# Altium footprint library ANT11SF1CQE.PcbLib: 1 footprints
Each footprint in its own frame and in the unit in brackets; x right, y up, seen from the top. Pads: shape width x height; smd on the part's side, far side on the other; paste and mask are expansions set on the pad; w line width, h text height; cw(c..) or ccw(c..) is an arc to the next point about the centre after c.
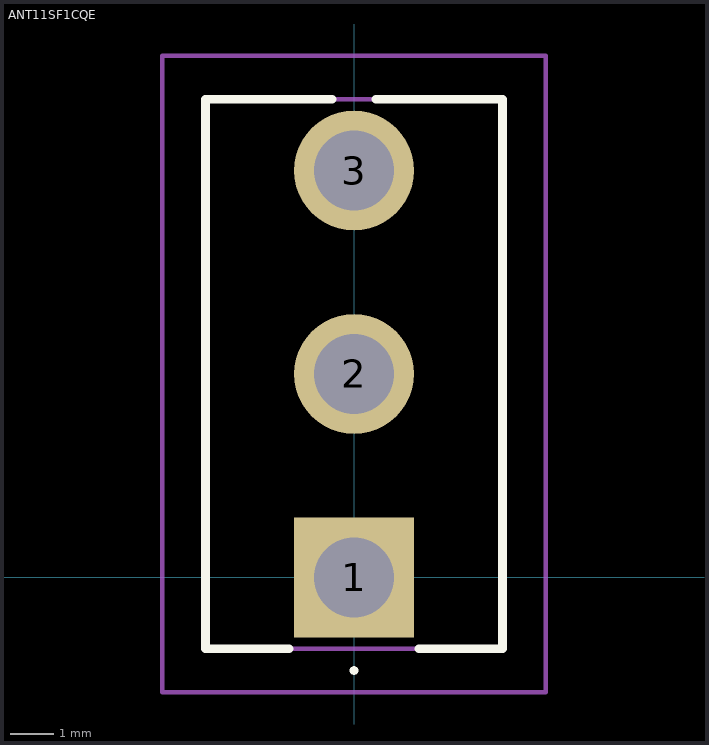
[diagram p0: the footprint, top view; thin cyan lines are the x and y axes]

## ANT11SF1CQE [mm]
pads (3):
  rect 2.775x2.775 hole 1.85: 1(0,0)
  round 2.775 hole 1.85: 2(0,4.7) 3(0,9.4)
Top Overlay:
  lines w0.1: 0,-2.2 0,-2.2 ; 0,-2.2 ccw(c0,-2.15) 0,-2.1 ; 0,-2.2 cw(c0,-2.15) 0,-2.1 ; 0,-2.1 0,-2.1
  lines w0.2: -1.5,-1.65 -3.43,-1.65 -3.43,11.05 -0.5,11.05 ; 0.5,11.05 3.43,11.05 3.43,-1.65 1.5,-1.65
Mechanical 15:
  lines w0.1: -3.43,-1.65 3.43,-1.65 3.43,11.05 -3.43,11.05 -3.43,-1.65
Mechanical 20:
  lines w0.1: -4.43,-2.65 4.43,-2.65 4.43,12.05 -4.43,12.05 -4.43,-2.65